# Altium footprint library Panasonic.PcbLib: 90 footprints (part 3 of 6)
Each footprint in its own frame and in the unit in brackets; x right, y up, seen from the top. Pads: shape width x height; smd on the part's side, far side on the other; paste and mask are expansions set on the pad; w line width, h text height; cw(c..) or ccw(c..) is an arc to the next point about the centre after c.
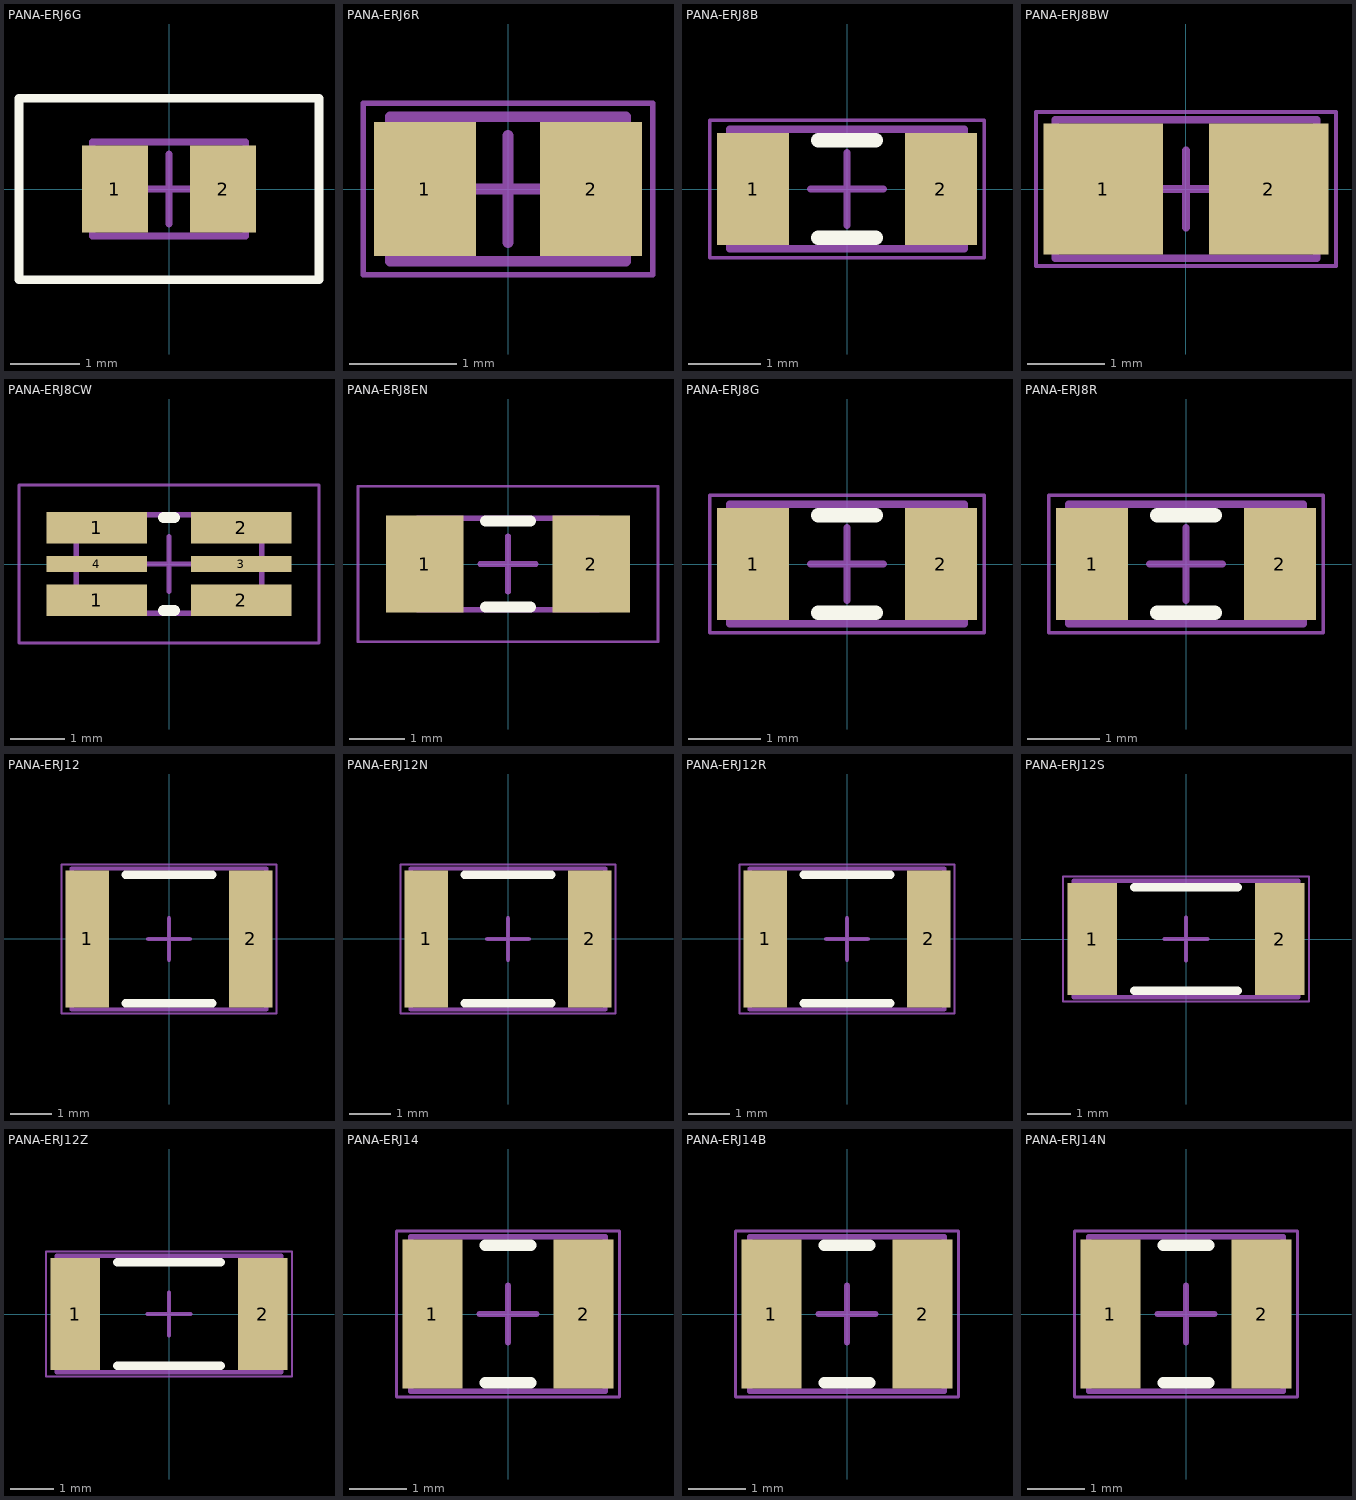
[diagram p2: the footprints below, top view; thin cyan lines are the x and y axes]

## PANA-ERJ6G [mm] "Chip Resistor, 2-Leads, Body 2.00x1.25mm, IPC High Density"
height 0.7
pads (2):
  rect 0.95x1.25 smd: 1(-0.775,0) 2(0.775,0)
Top Overlay:
  lines w0.127: -2.15,-1.3 -2.15,1.3 2.15,1.3 2.15,-1.3 -2.15,-1.3
Mechanical 13:
  lines w0.1: -1.1,-0.675 1.1,-0.675 1.1,0.675 -1.1,0.675 -1.1,-0.675
Mechanical 15:
  lines w0.05: -2.15,-1.3 2.15,-1.3 2.15,1.3 -2.15,1.3 -2.15,-1.3
  lines w0.1: -0.5,0 0.5,0 ; 0,-0.5 0,0.5
3D body: height 0.7, standoff 0, extent 0.7,-0.675 1.1,0.675
3D body: height 0.7, standoff 0, extent -1.1,-0.675 -0.7,0.675
3D body: height 0.7, standoff 0, extent -0.7,-0.675 0.7,0.675

## PANA-ERJ6R [mm] "Chip Resistor, 2-Leads, Body 2.00x1.25mm, IPC High Density"
height 0.7
pads (2):
  rect 0.95x1.25 smd: 1(-0.775,0) 2(0.775,0)
Mechanical 13:
  lines w0.1: -1.1,-0.675 -1.1,0.675 1.1,0.675 1.1,-0.675 -1.1,-0.675
Mechanical 15:
  lines w0.05: -1.35,-0.8 -1.35,0.8 1.35,0.8 1.35,-0.8 -1.35,-0.8
  lines w0.1: -0.5,0 0.5,0 ; 0,-0.5 0,0.5
3D body: height 0.7, standoff 0, extent -0.7,-0.675 0.7,0.675
3D body: height 0.7, standoff 0, extent -1.1,-0.675 -0.7,0.675
3D body: height 0.7, standoff 0, extent 0.7,-0.675 1.1,0.675

## PANA-ERJ8B [mm] "Chip Resistor, 2-Leads, Body 3.13x1.55mm, IPC High Density"
height 0.7
pads (2):
  rect 1x1.55 smd: 1(-1.3,0) 2(1.3,0)
Top Overlay:
  lines w0.2: -0.4,-0.675 0.4,-0.675 ; -0.4,0.675 0.4,0.675
Mechanical 13:
  lines w0.1: -1.625,-0.825 -1.625,0.825 1.625,0.825 1.625,-0.825 -1.625,-0.825
Mechanical 15:
  lines w0.05: -1.9,-0.95 -1.9,0.95 1.9,0.95 1.9,-0.95 -1.9,-0.95
  lines w0.1: -0.5,0 0.5,0 ; 0,-0.5 0,0.5
3D body: height 0.7, standoff 0, extent -1.125,-0.825 1.125,0.825
3D body: height 0.7, standoff 0, extent -1.625,-0.825 -1.125,0.825
3D body: height 0.7, standoff 0, extent 1.125,-0.825 1.625,0.825

## PANA-ERJ8BW [mm] "Chip Resistor, 2-Leads, Body 3.20x1.60mm, IPC High Density"
height 0.75
pads (2):
  rect 1.55x1.7 smd: 1(-1.075,0) 2(1.075,0)
Mechanical 13:
  lines w0.1: -1.7,-0.9 1.7,-0.9 1.7,0.9 -1.7,0.9 -1.7,-0.9
Mechanical 15:
  lines w0.05: -1.95,-1 1.95,-1 1.95,1 -1.95,1 -1.95,-1
  lines w0.1: -0.5,0 0.5,0 ; 0,-0.5 0,0.5
3D body: height 0.75, standoff 0, extent 0.7,-0.9 1.7,0.9
3D body: height 0.75, standoff 0, extent -1.7,-0.9 -0.7,0.9
3D body: height 0.75, standoff 0, extent -0.7,-0.9 0.7,0.9

## PANA-ERJ8CW [mm] "Chip Resistor, 2-Leads, Body 3.20x1.60mm, IPC Low Density"
height 0.75
pads (6):
  rect 1.85x0.57 smd: 1(-1.325,-0.665) 1(-1.325,0.665) 2(1.325,-0.665) 2(1.325,0.665)
  rect 1.85x0.285 smd: 3(1.325,0) 4(-1.325,0)
Top Overlay:
  lines w0.2: -0.1,-0.85 0.1,-0.85 ; -0.1,0.85 0.1,0.85
Assembly Top:
  lines w0.1: -1.7,-0.9 1.7,-0.9 1.7,0.9 -1.7,0.9 -1.7,-0.9
Courtyard Top:
  lines w0.05: -2.75,-1.45 2.75,-1.45 2.75,1.45 -2.75,1.45 -2.75,-1.45
  lines w0.1: -0.5,0 0.5,0 ; 0,-0.5 0,0.5
3D body "RESC3216X08M.step": height 0.75, standoff 0, extent -1.7,-0.9 1.7,0.9

## PANA-ERJ8EN [mm] "Chip Resistor, 2-Leads, Body 3.13x1.55mm, IPC Low Density"
height 0.7
pads (2):
  rect 1.4x1.75 smd: 1(-1.5,0) 2(1.5,0)
Top Overlay:
  lines w0.2: -0.4,-0.775 0.4,-0.775 ; -0.4,0.775 0.4,0.775
Assembly Top:
  lines w0.1: -1.625,-0.825 -1.625,0.825 1.625,0.825 1.625,-0.825 -1.625,-0.825
Courtyard Top:
  lines w0.05: -2.7,-1.4 -2.7,1.4 2.7,1.4 2.7,-1.4 -2.7,-1.4
  lines w0.1: -0.5,0 0.5,0 ; 0,-0.5 0,0.5
3D body "PANA-ERJ8EN.step": height 0.7, standoff 0, extent -1.625,-0.825 1.625,0.825

## PANA-ERJ8G [mm] "Chip Resistor, 2-Leads, Body 3.13x1.55mm, IPC High Density"
height 0.7
pads (2):
  rect 1x1.55 smd: 1(-1.3,0) 2(1.3,0)
Top Overlay:
  lines w0.2: -0.4,-0.675 0.4,-0.675 ; -0.4,0.675 0.4,0.675
Mechanical 13:
  lines w0.1: -1.625,-0.825 -1.625,0.825 1.625,0.825 1.625,-0.825 -1.625,-0.825
Mechanical 15:
  lines w0.05: -1.9,-0.95 -1.9,0.95 1.9,0.95 1.9,-0.95 -1.9,-0.95
  lines w0.1: -0.5,0 0.5,0 ; 0,-0.5 0,0.5
3D body: height 0.7, standoff 0, extent -1.125,-0.825 1.125,0.825
3D body: height 0.7, standoff 0, extent -1.625,-0.825 -1.125,0.825
3D body: height 0.7, standoff 0, extent 1.125,-0.825 1.625,0.825

## PANA-ERJ8R [mm] "Chip Resistor, 2-Leads, Body 3.13x1.55mm, IPC High Density"
height 0.7
pads (2):
  rect 1x1.55 smd: 1(-1.3,0) 2(1.3,0)
Top Overlay:
  lines w0.2: -0.4,-0.675 0.4,-0.675 ; -0.4,0.675 0.4,0.675
Mechanical 13:
  lines w0.1: -1.625,-0.825 1.625,-0.825 1.625,0.825 -1.625,0.825 -1.625,-0.825
Mechanical 15:
  lines w0.05: -1.9,-0.95 1.9,-0.95 1.9,0.95 -1.9,0.95 -1.9,-0.95
  lines w0.1: -0.5,0 0.5,0 ; 0,-0.5 0,0.5
3D body: height 0.7, standoff 0, extent 1.125,-0.825 1.625,0.825
3D body: height 0.7, standoff 0, extent -1.625,-0.825 -1.125,0.825
3D body: height 0.7, standoff 0, extent -1.125,-0.825 1.125,0.825

## PANA-ERJ12 [mm] "Chip Resistor, 2-Leads, Body 4.50x3.20mm, IPC High Density"
height 0.7
pads (2):
  rect 1.05x3.3 smd: 1(-1.975,0) 2(1.975,0)
Top Overlay:
  lines w0.2: -1.05,-1.55 1.05,-1.55 ; -1.05,1.55 1.05,1.55
Mechanical 13:
  lines w0.1: -2.35,-1.7 -2.35,1.7 2.35,1.7 2.35,-1.7 -2.35,-1.7
Mechanical 15:
  lines w0.05: -2.6,-1.8 -2.6,1.8 2.6,1.8 2.6,-1.8 -2.6,-1.8
  lines w0.1: -0.5,0 0.5,0 ; 0,-0.5 0,0.5
3D body: height 0.7, standoff 0, extent -1.85,-1.7 1.85,1.7
3D body: height 0.7, standoff 0, extent -2.35,-1.7 -1.85,1.7
3D body: height 0.7, standoff 0, extent 1.85,-1.7 2.35,1.7

## PANA-ERJ12N [mm] "Chip Resistor, 2-Leads, Body 4.50x3.20mm, IPC High Density"
height 0.7
pads (2):
  rect 1.05x3.3 smd: 1(-1.975,0) 2(1.975,0)
Top Overlay:
  lines w0.2: -1.05,-1.55 1.05,-1.55 ; -1.05,1.55 1.05,1.55
Mechanical 13:
  lines w0.1: -2.35,-1.7 -2.35,1.7 2.35,1.7 2.35,-1.7 -2.35,-1.7
Mechanical 15:
  lines w0.05: -2.6,-1.8 -2.6,1.8 2.6,1.8 2.6,-1.8 -2.6,-1.8
  lines w0.1: -0.5,0 0.5,0 ; 0,-0.5 0,0.5
3D body: height 0.7, standoff 0, extent -1.85,-1.7 1.85,1.7
3D body: height 0.7, standoff 0, extent -2.35,-1.7 -1.85,1.7
3D body: height 0.7, standoff 0, extent 1.85,-1.7 2.35,1.7

## PANA-ERJ12R [mm] "Chip Resistor, 2-Leads, Body 4.50x3.20mm, IPC High Density"
height 0.7
pads (2):
  rect 1.05x3.3 smd: 1(-1.975,0) 2(1.975,0)
Top Overlay:
  lines w0.2: -1.05,-1.55 1.05,-1.55 ; -1.05,1.55 1.05,1.55
Mechanical 13:
  lines w0.1: -2.35,-1.7 2.35,-1.7 2.35,1.7 -2.35,1.7 -2.35,-1.7
Mechanical 15:
  lines w0.05: -2.6,-1.8 2.6,-1.8 2.6,1.8 -2.6,1.8 -2.6,-1.8
  lines w0.1: -0.5,0 0.5,0 ; 0,-0.5 0,0.5
3D body: height 0.7, standoff 0, extent 1.85,-1.7 2.35,1.7
3D body: height 0.7, standoff 0, extent -2.35,-1.7 -1.85,1.7
3D body: height 0.7, standoff 0, extent -1.85,-1.7 1.85,1.7

## PANA-ERJ12S [mm] "Chip Resistor, 2-Leads, Body 5.00x2.50mm, IPC High Density"
height 0.7
pads (2):
  rect 1.15x2.6 smd: 1(-2.175,0) 2(2.175,0)
Top Overlay:
  lines w0.2: -1.2,-1.2 1.2,-1.2 ; -1.2,1.2 1.2,1.2
Mechanical 13:
  lines w0.1: -2.6,-1.35 -2.6,1.35 2.6,1.35 2.6,-1.35 -2.6,-1.35
Mechanical 15:
  lines w0.05: -2.85,-1.45 -2.85,1.45 2.85,1.45 2.85,-1.45 -2.85,-1.45
  lines w0.1: -0.5,0 0.5,0 ; 0,-0.5 0,0.5
3D body: height 0.7, standoff 0, extent -2,-1.35 2,1.35
3D body: height 0.7, standoff 0, extent -2.6,-1.35 -2,1.35
3D body: height 0.7, standoff 0, extent 2,-1.35 2.6,1.35

## PANA-ERJ12Z [mm] "Chip Resistor, 2-Leads, Body 5.00x2.50mm, IPC High Density"
height 0.7
pads (2):
  rect 1.15x2.6 smd: 1(-2.175,0) 2(2.175,0)
Top Overlay:
  lines w0.2: -1.2,-1.2 1.2,-1.2 ; -1.2,1.2 1.2,1.2
Mechanical 13:
  lines w0.1: -2.6,-1.35 -2.6,1.35 2.6,1.35 2.6,-1.35 -2.6,-1.35
Mechanical 15:
  lines w0.05: -2.85,-1.45 -2.85,1.45 2.85,1.45 2.85,-1.45 -2.85,-1.45
  lines w0.1: -0.5,0 0.5,0 ; 0,-0.5 0,0.5
3D body: height 0.7, standoff 0, extent -2,-1.35 2,1.35
3D body: height 0.7, standoff 0, extent -2.6,-1.35 -2,1.35
3D body: height 0.7, standoff 0, extent 2,-1.35 2.6,1.35

## PANA-ERJ14 [mm] "Chip Resistor, 2-Leads, Body 3.20x2.50mm, IPC High Density"
height 0.7
pads (2):
  rect 1.05x2.6 smd: 1(-1.325,0) 2(1.325,0)
Top Overlay:
  lines w0.2: -0.4,-1.2 0.4,-1.2 ; -0.4,1.2 0.4,1.2
Mechanical 13:
  lines w0.1: -1.7,-1.35 -1.7,1.35 1.7,1.35 1.7,-1.35 -1.7,-1.35
Mechanical 15:
  lines w0.05: -1.95,-1.45 -1.95,1.45 1.95,1.45 1.95,-1.45 -1.95,-1.45
  lines w0.1: -0.5,0 0.5,0 ; 0,-0.5 0,0.5
3D body: height 0.7, standoff 0, extent -1.2,-1.35 1.2,1.35
3D body: height 0.7, standoff 0, extent -1.7,-1.35 -1.2,1.35
3D body: height 0.7, standoff 0, extent 1.2,-1.35 1.7,1.35

## PANA-ERJ14B [mm] "Chip Resistor, 2-Leads, Body 3.20x2.50mm, IPC High Density"
height 0.7
pads (2):
  rect 1.05x2.6 smd: 1(-1.325,0) 2(1.325,0)
Top Overlay:
  lines w0.2: -0.4,-1.2 0.4,-1.2 ; -0.4,1.2 0.4,1.2
Mechanical 13:
  lines w0.1: -1.7,-1.35 -1.7,1.35 1.7,1.35 1.7,-1.35 -1.7,-1.35
Mechanical 15:
  lines w0.05: -1.95,-1.45 -1.95,1.45 1.95,1.45 1.95,-1.45 -1.95,-1.45
  lines w0.1: -0.5,0 0.5,0 ; 0,-0.5 0,0.5
3D body: height 0.7, standoff 0, extent -1.2,-1.35 1.2,1.35
3D body: height 0.7, standoff 0, extent -1.7,-1.35 -1.2,1.35
3D body: height 0.7, standoff 0, extent 1.2,-1.35 1.7,1.35

## PANA-ERJ14N [mm] "Chip Resistor, 2-Leads, Body 3.20x2.50mm, IPC High Density"
height 0.7
pads (2):
  rect 1.05x2.6 smd: 1(-1.325,0) 2(1.325,0)
Top Overlay:
  lines w0.2: -0.4,-1.2 0.4,-1.2 ; -0.4,1.2 0.4,1.2
Mechanical 13:
  lines w0.1: -1.7,-1.35 -1.7,1.35 1.7,1.35 1.7,-1.35 -1.7,-1.35
Mechanical 15:
  lines w0.05: -1.95,-1.45 -1.95,1.45 1.95,1.45 1.95,-1.45 -1.95,-1.45
  lines w0.1: -0.5,0 0.5,0 ; 0,-0.5 0,0.5
3D body: height 0.7, standoff 0, extent -1.2,-1.35 1.2,1.35
3D body: height 0.7, standoff 0, extent -1.7,-1.35 -1.2,1.35
3D body: height 0.7, standoff 0, extent 1.2,-1.35 1.7,1.35